# Altium footprint library FEV-60.PcbLib: 8 footprints
Each footprint in its own frame and in the unit in brackets; x right, y up, seen from the top. Pads: shape width x height; smd on the part's side, far side on the other; paste and mask are expansions set on the pad; w line width, h text height; cw(c..) or ccw(c..) is an arc to the next point about the centre after c.
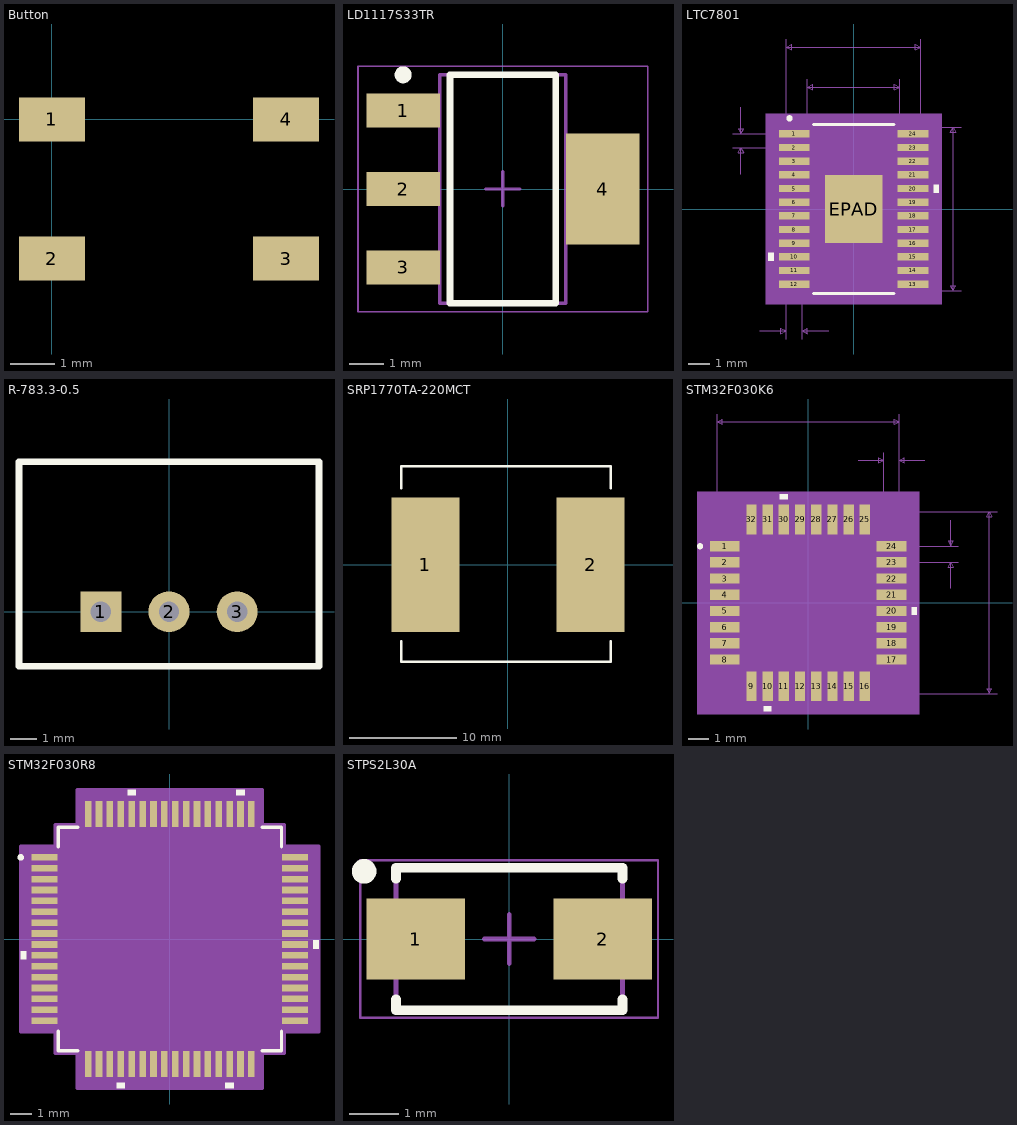
[diagram p0: the footprints below, top view; thin cyan lines are the x and y axes]

## Button [mm]
pads (4):
  rect 1.5x1 smd: 1(0,0) 2(0,-3.175) 3(5.334,-3.175) 4(5.334,0)

## LD1117S33TR [mm] "SOT223, LDO 3.3V Converter"
height 1.8
pads (4):
  rect 2.15x1 smd: 1(-2.925,2.3) 2(-2.925,0) 3(-2.925,-2.3)
  rect 2.15x3.25 smd: 4(2.925,0)
Top Overlay:
  circle w0.25: c-2.925,3.35 r0.125
  lines w0.2: -1.55,-3.35 1.55,-3.35 1.55,3.35 -1.55,3.35 -1.55,-3.35
Mechanical 13:
  lines w0.1: -1.85,-3.35 1.85,-3.35 1.85,3.35 -1.85,3.35 -1.85,-3.35
Mechanical 15:
  lines w0.05: -4.25,-3.6 4.25,-3.6 4.25,3.6 -4.25,3.6 -4.25,-3.6
  lines w0.1: -0.5,0 0.5,0 ; 0,-0.5 0,0.5
3D body "LD1117S33TR.step": height 1.8, standoff 0, extent -3.5,-3.35 3.5,3.35

## LTC7801 [mm]
pads (25):
  rect 1.461x0.351 smd: 1(-2.825,3.575) 2(-2.825,2.925) 3(-2.825,2.275) 4(-2.825,1.625) 5(-2.825,0.975) 6(-2.825,0.325) 7(-2.825,-0.325) 8(-2.825,-0.975) 9(-2.825,-1.625) 10(-2.825,-2.275) 11(-2.825,-2.925) 12(-2.825,-3.575) 13(2.825,-3.575) 14(2.825,-2.925) 15(2.825,-2.275) 16(2.825,-1.625) 17(2.825,-0.975) 18(2.825,-0.325) 19(2.825,0.325) 20(2.825,0.975) 21(2.825,1.625) 22(2.825,2.275) 23(2.825,2.925) 24(2.825,3.575)
  rect 2.74x3.25 smd paste-1.612: EPAD(0,0)
Top Overlay:
  circle w0.152: c-3.048,4.318 r0.076
  region: -3.81,-2.084 -4.064,-2.084 -4.064,-2.465 -3.81,-2.465
  region: 3.81,1.165 4.064,1.165 4.064,0.784 3.81,0.784
  lines w0.152: -1.909,-4.027 1.909,-4.027 ; -1.909,4.027 1.909,4.027
Top Paste:
  region: -0.1,1.525 -1.27,1.525 -1.27,0.1 -0.1,0.1
  region: -0.1,-0.1 -1.27,-0.1 -1.27,-1.525 -0.1,-1.525
  region: 1.27,1.525 0.1,1.525 0.1,0.1 1.27,0.1
  region: 1.27,-0.1 0.1,-0.1 0.1,-1.525 1.27,-1.525
Mechanical 5:
  region: 4.191,-4.535 -4.191,-4.535 -4.191,4.535 4.191,4.535
Mechanical 7:
  lines w0.025: -5.746,2.925 -2.825,2.925 ; -5.746,3.575 -2.825,3.575 ; -5.365,1.655 -5.365,2.925 ; -5.365,4.845 -5.365,3.575 ; -4.47,-5.805 -3.2,-5.805 ; -3.2,-6.186 -3.2,0 -3.2,8.091 ; -2.45,-6.186 -2.45,0 ; -2.2,0 -2.2,6.186 ; -1.18,-5.805 -2.45,-5.805 ; 0,-3.9 5.121,-3.9 ; 0,3.9 5.121,3.9 ; 2.2,0 2.2,6.186 ; 3.2,0 3.2,8.091 ; -5.365,2.925 -5.492,2.671 -5.238,2.671 -5.365,2.925 ; -5.365,3.575 -5.492,3.829 -5.238,3.829 -5.365,3.575 ; -3.2,-5.805 -3.454,-5.678 -3.454,-5.932 -3.2,-5.805 ; -3.2,7.71 3.2,7.71 ; -3.2,7.71 -2.946,7.837 -2.946,7.583 -3.2,7.71 ; -2.45,-5.805 -2.196,-5.678 -2.196,-5.932 -2.45,-5.805 ; -2.2,5.805 2.2,5.805 ; -2.2,5.805 -1.946,5.932 -1.946,5.678 -2.2,5.805 ; 2.2,5.805 1.946,5.932 1.946,5.678 2.2,5.805 ; 3.2,7.71 2.946,7.837 2.946,7.583 3.2,7.71 ; 4.74,-3.9 4.74,3.9 ; 4.74,-3.9 4.613,-3.646 4.867,-3.646 4.74,-3.9 ; 4.74,3.9 4.613,3.646 4.867,3.646 4.74,3.9
  text "Default Padstyle: r146_35" at -7.938,-8.98 h1.27
  text "Pin One Padstyle: r146_35" at -7.938,-10.504 h1.27
  text "Heat Tab Padstyle: r274_325" at -8.572,-12.028 h1.27
  text "Alt 1 Padstyle: b152_229h76" at -8.572,-15.076 h1.27
  text "Alt 2 Padstyle: b229_152h76" at -8.572,-16.6 h1.27
  text "0.173in/4.4mm" at -2.064,6.313 h0.64
  text "0.252in/6.4mm" at -2.064,8.218 h0.64
  text "0.307in/7.8mm" at 5.248,-0.318 h0.64
  text "0.026in/0.65mm" at -10.318,2.933 h0.64
  text "0.03in/0.75mm" at -4.889,-6.948 h0.64
Mechanical 13:
  lines w0: -0.305,3.9 ccw(c0,3.9) 0.305,3.9
  lines w0.025: -3.2,-3.725 -3.2,-3.425 -2.2,-3.425 -2.2,-3.725 -3.2,-3.725 ; -3.2,-3.075 -3.2,-2.775 -2.2,-2.775 -2.2,-3.075 -3.2,-3.075 ; -3.2,-2.425 -3.2,-2.125 -2.2,-2.125 -2.2,-2.425 -3.2,-2.425 ; -3.2,-1.775 -3.2,-1.475 -2.2,-1.475 -2.2,-1.775 -3.2,-1.775 ; -3.2,-1.125 -3.2,-0.825 -2.2,-0.825 -2.2,-1.125 -3.2,-1.125 ; -3.2,-0.475 -3.2,-0.175 -2.2,-0.175 -2.2,-0.475 -3.2,-0.475 ; -3.2,0.175 -3.2,0.475 -2.2,0.475 -2.2,0.175 -3.2,0.175 ; -3.2,0.825 -3.2,1.125 -2.2,1.125 -2.2,0.825 -3.2,0.825 ; -3.2,1.475 -3.2,1.775 -2.2,1.775 -2.2,1.475 -3.2,1.475 ; -3.2,2.125 -3.2,2.425 -2.2,2.425 -2.2,2.125 -3.2,2.125 ; -3.2,2.775 -3.2,3.075 -2.2,3.075 -2.2,2.775 -3.2,2.775 ; -3.2,3.425 -3.2,3.725 -2.2,3.725 -2.2,3.425 -3.2,3.425 ; -2.2,-3.9 2.2,-3.9 2.2,3.9 -2.2,3.9 -2.2,-3.9 ; 2.2,-3.725 2.2,-3.425 3.2,-3.425 3.2,-3.725 2.2,-3.725 ; 2.2,-3.075 2.2,-2.775 3.2,-2.775 3.2,-3.075 2.2,-3.075 ; 2.2,-2.425 2.2,-2.125 3.2,-2.125 3.2,-2.425 2.2,-2.425 ; 2.2,-1.775 2.2,-1.475 3.2,-1.475 3.2,-1.775 2.2,-1.775 ; 2.2,-1.125 2.2,-0.825 3.2,-0.825 3.2,-1.125 2.2,-1.125 ; 2.2,-0.475 2.2,-0.175 3.2,-0.175 3.2,-0.475 2.2,-0.475 ; 2.2,0.175 2.2,0.475 3.2,0.475 3.2,0.175 2.2,0.175 ; 2.2,0.825 2.2,1.125 3.2,1.125 3.2,0.825 2.2,0.825 ; 2.2,1.475 2.2,1.775 3.2,1.775 3.2,1.475 2.2,1.475 ; 2.2,2.125 2.2,2.425 3.2,2.425 3.2,2.125 2.2,2.125 ; 2.2,2.775 2.2,3.075 3.2,3.075 3.2,2.775 2.2,2.775 ; 2.2,3.425 2.2,3.725 3.2,3.725 3.2,3.425 2.2,3.425
  text "*" at -2.137,2.554 h1.27
Mechanical 15:
  region: -2.454,-4.004 -3.81,-4.004 -3.81,4.004 -2.454,4.004 -2.454,4.154 2.454,4.154 2.454,4.004 3.81,4.004 3.81,-4.004 2.454,-4.004 2.454,-4.154 -2.454,-4.154
  lines w0.152: -3.81,-4.004 -3.81,4.004 -2.454,4.004 -2.454,4.154 2.454,4.154 2.454,4.004 3.81,4.004 3.81,-4.004 2.454,-4.004 2.454,-4.154 -2.454,-4.154 -2.454,-4.004 -3.81,-4.004
3D body "TSSOP24_FE_AA.step": height 1.2, standoff 0, extent -3.2,-3.9 3.2,3.9
3D body: height 0.25, standoff 0, extent 0,0 0.254,0.254

## R-783.3-0.5 [mil]
pads (3):
  rect 60x60 hole 30: 1(-100,0)
  round 60 hole 30: 2(0,0) 3(100,0)
Top Overlay:
  lines w10: -220,-80 -220,220 220,220 220,-80 0,-80 -220,-80

## SRP1770TA-220MCT [mil]
pads (2):
  rect 248x492 smd: 1(-302,0) 2(302,0)
Top Overlay:
  lines w10: -390,-280 -390,-355 375,-355 375,-280 ; -390,280 -390,360 375,360 375,280
3D body "SRP1770TA.stp": height 268.11, standoff 0, extent -362.36,-330.35 342.36,335

## STM32F030K6 [mil]
pads (32):
  rect 58x20 smd: 1(-162,110.24) 2(-162,78.74) 3(-162,47.24) 4(-162,15.75) 5(-162,-15.75) 6(-162,-47.24) 7(-162,-78.74) 8(-162,-110.24) 17(162,-110.24) 18(162,-78.74) 19(162,-47.24) 20(162,-15.75) 21(162,15.75) 22(162,47.24) 23(162,78.74) 24(162,110.24)
  rect 20x58 smd: 9(-110.24,-162) 10(-78.74,-162) 11(-47.24,-162) 12(-15.75,-162) 13(15.75,-162) 14(47.24,-162) 15(78.74,-162) 16(110.24,-162) 25(110.24,162) 26(78.74,162) 27(47.24,162) 28(15.75,162) 29(-15.75,162) 30(-47.24,162) 31(-78.74,162) 32(-110.24,162)
Top Overlay:
  circle w6: c-210,110 r3
  region: -71.24,-201 -86.24,-201 -86.24,-211 -71.24,-211
  region: 201,-8.25 211,-8.25 211,-23.25 201,-23.25
  region: -39.74,201 -54.74,201 -54.74,211 -39.74,211
Mechanical 5:
  region: 216,-216 -216,-216 -216,216 216,216
Mechanical 7:
  lines w1: -177,110.24 -177,367 ; 97,277 147,277 ; 110.24,-177 367,-177 ; 110.24,177 367,177 ; 147,110.24 147,292 ; 162,78.74 292,78.74 ; 162,110.24 292,110.24 ; 177,292 177,110.24 177,367 ; 227,277 177,277 ; 277,28.74 277,78.74 ; 277,160.24 277,110.24 ; -177,352 177,352 ; -177,352 -167,357 -167,347 -177,352 ; 147,277 137,282 137,272 147,277 ; 177,277 187,282 187,272 177,277 ; 177,352 167,357 167,347 177,352 ; 277,78.74 272,68.74 282,68.74 277,78.74 ; 277,110.24 272,120.24 282,120.24 277,110.24 ; 352,-177 352,177 ; 352,-177 347,-167 357,-167 352,-177 ; 352,177 347,167 357,167 352,177
  text "Default Horiz Padstyle: RX20Y58D0T" at -425,-427 h50
  text "Default Vert Padstyle: RX20Y58D0T" at -412.5,-487 h50
  text "Alt 1 Padstyle: OX60Y90D30P" at -337.5,-667 h50
  text "Alt 2 Padstyle: OX90Y60D30P" at -337.5,-727 h50
  text "0.031in/0.8mm" at 297,81.99 h25
  text "0.03in/0.762mm" at 74.5,297 h25
  text "0.354in/8.992mm" at -93.75,372 h25
  text "0.354in/8.992mm" at 372,-12.5 h25
Mechanical 13:
  lines w1: -138,88 -88,138 ; -177,-119.24 -177,-101.24 -138,-101.24 -138,-119.24 -177,-119.24 ; -177,-87.74 -177,-69.74 -138,-69.74 -138,-87.74 -177,-87.74 ; -177,-56.24 -177,-38.24 -138,-38.24 -138,-56.24 -177,-56.24 ; -177,-24.75 -177,-6.75 -138,-6.75 -138,-24.75 -177,-24.75 ; -177,6.75 -177,24.75 -138,24.75 -138,6.75 -177,6.75 ; -177,38.24 -177,56.24 -138,56.24 -138,38.24 -177,38.24 ; -177,69.74 -177,87.74 -138,87.74 -138,69.74 -177,69.74 ; -177,101.24 -177,119.24 -138,119.24 -138,101.24 -177,101.24 ; -138,-138 138,-138 138,138 -138,138 -138,-138 ; -119.24,-177 -119.24,-138 -101.24,-138 -101.24,-177 -119.24,-177 ; -119.24,138 -101.24,138 -101.24,177 -119.24,177 -119.24,138 ; -87.74,-177 -87.74,-138 -69.74,-138 -69.74,-177 -87.74,-177 ; -87.74,138 -69.74,138 -69.74,177 -87.74,177 -87.74,138 ; -56.24,-177 -56.24,-138 -38.24,-138 -38.24,-177 -56.24,-177 ; -56.24,138 -38.24,138 -38.24,177 -56.24,177 -56.24,138 ; -24.75,-177 -24.75,-138 -6.75,-138 -6.75,-177 -24.75,-177 ; -24.75,138 -6.75,138 -6.75,177 -24.75,177 -24.75,138 ; 6.75,-177 6.75,-138 24.75,-138 24.75,-177 6.75,-177 ; 6.75,138 24.75,138 24.75,177 6.75,177 6.75,138 ; 38.24,-177 38.24,-138 56.24,-138 56.24,-177 38.24,-177 ; 38.24,138 56.24,138 56.24,177 38.24,177 38.24,138 ; 69.74,-177 69.74,-138 87.74,-138 87.74,-177 69.74,-177 ; 69.74,138 87.74,138 87.74,177 69.74,177 69.74,138 ; 101.24,-177 101.24,-138 119.24,-138 119.24,-177 101.24,-177 ; 101.24,138 119.24,138 119.24,177 101.24,177 101.24,138 ; 138,-119.24 138,-101.24 177,-101.24 177,-119.24 138,-119.24 ; 138,-87.74 138,-69.74 177,-69.74 177,-87.74 138,-87.74 ; 138,-56.24 138,-38.24 177,-38.24 177,-56.24 138,-56.24 ; 138,-24.75 138,-6.75 177,-6.75 177,-24.75 138,-24.75 ; 138,6.75 138,24.75 177,24.75 177,6.75 138,6.75 ; 138,38.24 138,56.24 177,56.24 177,38.24 138,38.24 ; 138,69.74 138,87.74 177,87.74 177,69.74 138,69.74 ; 138,101.24 138,119.24 177,119.24 177,101.24 138,101.24
  text "*" at -135.5,100.98 h50
Mechanical 15:
  region: -130.24,-148 -148,-148 -148,-130.24 -207,-130.24 -207,130.24 -148,130.24 -148,148 -130.24,148 -130.24,207 130.24,207 130.24,148 148,148 148,130.24 207,130.24 207,-130.24 148,-130.24 148,-148 130.24,-148 130.24,-207 -130.24,-207
  lines w6: -207,-130.24 -148,-130.24 -148,-148 -130.24,-148 -130.24,-207 130.24,-207 130.24,-148 148,-148 148,-130.24 207,-130.24 207,130.24 148,130.24 148,148 130.24,148 130.24,207 -130.24,207 -130.24,148 -148,148 -148,130.24 -207,130.24 -207,-130.24
3D body: height 10, standoff 0, extent 0,0 10,10
3D body "LQFP-32.step": height 63.11, standoff 0, extent -177,-177 177.01,177.02

## STM32F030R8 [mil]
pads (64):
  rect 47x12 smd: 1(-226.38,147.64) 2(-226.38,127.95) 3(-226.38,108.27) 4(-226.38,88.58) 5(-226.38,68.9) 6(-226.38,49.21) 7(-226.38,29.53) 8(-226.38,9.84) 9(-226.38,-9.84) 10(-226.38,-29.53) 11(-226.38,-49.21) 12(-226.38,-68.9) 13(-226.38,-88.58) 14(-226.38,-108.27) 15(-226.38,-127.95) 16(-226.38,-147.64) 33(226.38,-147.64) 34(226.38,-127.95) 35(226.38,-108.27) 36(226.38,-88.58) 37(226.38,-68.9) 38(226.38,-49.21) 39(226.38,-29.53) 40(226.38,-9.84) 41(226.38,9.84) 42(226.38,29.53) 43(226.38,49.21) 44(226.38,68.9) 45(226.38,88.58) 46(226.38,108.27) 47(226.38,127.95) 48(226.38,147.64)
  rect 12x47 smd: 17(-147.64,-226.38) 18(-127.95,-226.38) 19(-108.27,-226.38) 20(-88.58,-226.38) 21(-68.9,-226.38) 22(-49.21,-226.38) 23(-29.53,-226.38) 24(-9.84,-226.38) 25(9.84,-226.38) 26(29.53,-226.38) 27(49.21,-226.38) 28(68.9,-226.38) 29(88.58,-226.38) 30(108.27,-226.38) 31(127.95,-226.38) 32(147.64,-226.38) 49(147.64,226.38) 50(127.95,226.38) 51(108.27,226.38) 52(88.58,226.38) 53(68.9,226.38) 54(49.21,226.38) 55(29.53,226.38) 56(9.84,226.38) 57(-9.84,226.38) 58(-29.53,226.38) 59(-49.21,226.38) 60(-68.9,226.38) 61(-88.58,226.38) 62(-108.27,226.38) 63(-127.95,226.38) 64(-147.64,226.38)
Top Overlay:
  circle w6: c-269.72,147.64 r3
  region: -61.4,259.88 -76.4,259.88 -76.4,269.88 -61.4,269.88
  region: 135.45,259.88 120.45,259.88 120.45,269.88 135.45,269.88
  region: 259.88,-2.34 269.88,-2.34 269.88,-17.34 259.88,-17.34
  region: 115.77,-259.88 100.77,-259.88 100.77,-269.88 115.77,-269.88
  region: -81.08,-259.88 -96.08,-259.88 -96.08,-269.88 -81.08,-269.88
  region: -259.88,-22.03 -269.88,-22.03 -269.88,-37.03 -259.88,-37.03
  lines w6: -202,-166.71 -202,-202 -166.71,-202 ; -202,166.71 -202,202 -166.71,202 ; 166.71,-202 202,-202 202,-166.71 ; 166.71,202 202,202 202,166.71
Mechanical 13:
  circle w0: c-177.88,147.64 r3
  lines w1: -197,147 -147,197 ; -197,-197 -197,197 197,197 197,-197 -197,-197
Mechanical 15:
  region: -167.64,-207 -207,-207 -207,-167.64 -269.88,-167.64 -269.88,167.64 -207,167.64 -207,207 -167.64,207 -167.64,269.88 167.64,269.88 167.64,207 207,207 207,167.64 269.88,167.64 269.88,-167.64 207,-167.64 207,-207 167.64,-207 167.64,-269.88 -167.64,-269.88
  lines w6: -269.88,-167.64 -269.88,167.64 -207,167.64 -207,207 -167.64,207 -167.64,269.88 167.64,269.88 167.64,207 207,207 207,167.64 269.88,167.64 269.88,-167.64 207,-167.64 207,-207 167.64,-207 167.64,-269.88 -167.64,-269.88 -167.64,-207 -207,-207 -207,-167.64 -269.88,-167.64
3D body: height 10, standoff 0, extent 0,0 10,10
3D body "LQFP64-10x10mm.step": height 63.11, standoff 0, extent -236.1,-236.1 236.11,236.11

## STPS2L30A [mm] "SODFL, Shottkey Diode"
height 2.45
pads (2):
  rect 2x1.65 smd: 1(-1.9,0) 2(1.9,0)
Top Overlay:
  circle w0.25: c-2.95,1.375 r0.125
  lines w0.2: -2.3,-1.225 -2.3,-1.45 2.3,-1.45 2.3,-1.225 ; -2.3,1.225 -2.3,1.45 2.3,1.45 2.3,1.225
Mechanical 13:
  lines w0.1: -2.3,-1.45 2.3,-1.45 2.3,1.45 -2.3,1.45 -2.3,-1.45
Mechanical 15:
  lines w0.05: -3.025,-1.6 3.025,-1.6 3.025,1.6 -3.025,1.6 -3.025,-1.6
  lines w0.1: -0.5,0 0.5,0 ; 0,-0.5 0,0.5
3D body "STPS2L30A.step": height 2.45, standoff 0, extent -2.538,-1.45 2.538,1.45